# Altium schematic symbol library TMP103.SchLib: 1 symbol
Pins are listed as number, name and electrical type; pins without a type are passive.

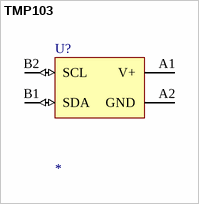
[diagram p0: symbol TMP103]

## TMP103
designator U?
pins: A1 V+ (power), A2 GND (power), B1 SDA (io), B2 SCL (io)